# Altium footprint library LCD_NHD-C12864LZ-FSW-FBW-3V3.PcbLib: 1 footprints
Each footprint in its own frame and in the unit in brackets; x right, y up, seen from the top. Pads: shape width x height; smd on the part's side, far side on the other; paste and mask are expansions set on the pad; w line width, h text height; cw(c..) or ccw(c..) is an arc to the next point about the centre after c.
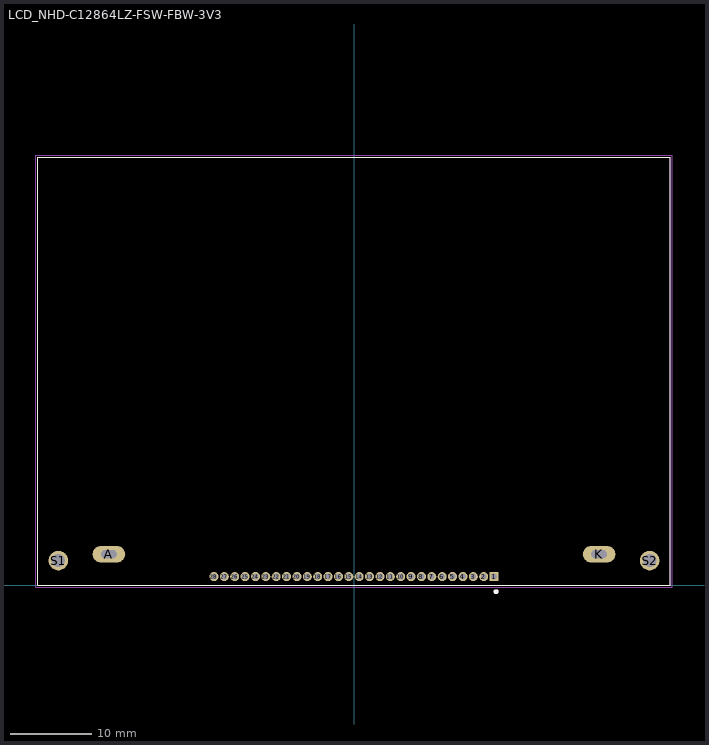
[diagram p0: the footprint, top view; thin cyan lines are the x and y axes]

## LCD_NHD-C12864LZ-FSW-FBW-3V3 [mm]
pads (32):
  rect 1.1x1.1 hole 0.7: 1(17.145,1.05)
  round 1.1 hole 0.7: 2(15.875,1.05) 3(14.605,1.05) 4(13.335,1.05) 5(12.065,1.05) 6(10.795,1.05) 7(9.525,1.05) 8(8.255,1.05) 9(6.985,1.05) 10(5.715,1.05) 11(4.445,1.05) 12(3.175,1.05) 13(1.905,1.05) 14(0.635,1.05) 15(-0.635,1.05) 16(-1.905,1.05) 17(-3.175,1.05) 18(-4.445,1.05) 19(-5.715,1.05) 20(-6.985,1.05) 21(-8.255,1.05) 22(-9.525,1.05) 23(-10.795,1.05) 24(-12.065,1.05) 25(-13.335,1.05) 26(-14.605,1.05) 27(-15.875,1.05) 28(-17.145,1.05)
  oval 4x2 hole 1 slot 1.9 at 0 deg: A(-30,3.79) K(30,3.79)
  round 2.4 hole 1.6: S1(-36.2,3) S2(36.2,3)
Top Overlay:
  circle w0.3: c17.4,-0.8 r0.15
  lines w0.127: -38.7,0 38.7,0 38.7,52.4 -38.7,52.4 -38.7,0
Mechanical 13:
  circle w0.3: c17.4,-0.8 r0.15
  lines w0.127: -38.7,0 -38.7,52.4 38.7,52.4 38.7,0 -38.7,0
Mechanical 15:
  lines w0.05: -38.95,-0.25 -38.95,52.65 38.95,52.65 38.95,-0.25 -38.95,-0.25
3D body "step_temp.STEP": height 6.5, standoff -4.2, extent -38.827,0.127 38.573,52.527